# Altium schematic symbol library PBL - Inductors.SCHLIB: 18 symbols
Pins are listed as number, name and electrical type; pins without a type are passive.

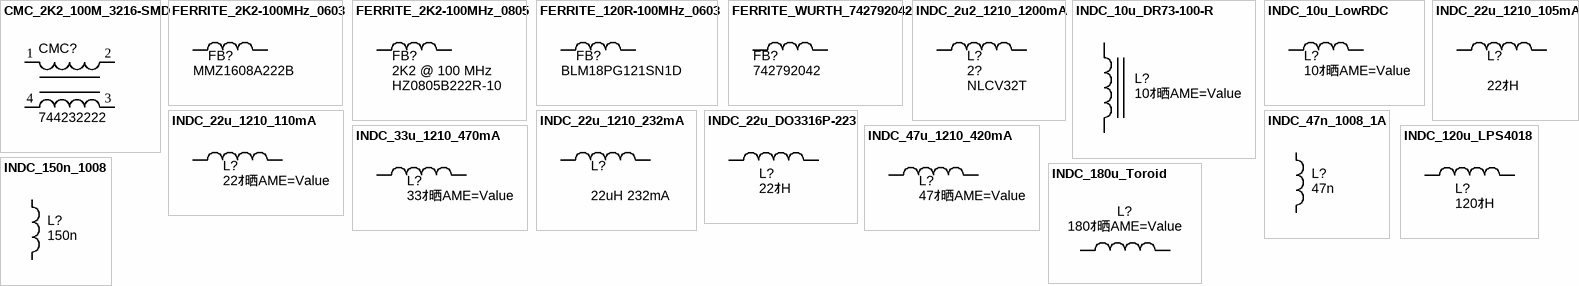
[diagram p0: symbols CMC_2K2_100M_3216-SMD to INDC_180u_Toroid]

## CMC_2K2_100M_3216-SMD
designator CMC?, comment 744232222
Common Mode Choke 2.2K Ohm 1206 SMD; Manufacturer 1: Wurth Electronics Inc; Impedance: 2200 Ohm at 100 MHz; Ratings: 2.2k Ohms at 100MHz; SCDType: source; PackageDescription: SMD Inductor, 4-Leads, Body 1.8 x 3.4 mm; Supplier 1: Digi-Key; Supplier Part Number 1: 732-1474-1-ND; ComponentLink1URL: http://katalog.we-online.de/kataloge/eisos/media/pdf/744232222.pdf; ComponentLink1Description: 744232222 datasheet; Manufacturer Part Number 1: 744232222; Package / Case: Horizontal, 4 PC Pad; Height (Max): 0.083" (2.10mm)
footprint CHOKE_CM_1206SMD (Common-mode choke, Body 3.4x1.8x2.2mm)
pins: 1, 2, 3, 4

## FERRITE_2K2-100MHz_0603
designator FB?, comment Manufacturer Part Number 1: MMZ1608A222B  (hidden comment: 2K2 @ 100 MHz)
Ferrite bead 2.2K Ohm at 100 MHz 200mA 0603 SMD; Manufacturer 1: TDK Corporation; Ratings: 200 mA; 800 mOhm DC; Impedance @ Frequency: 2200 Ohm @ 100MHz; DC Resistance (DCR): 800 mOhm Max; Filter Type: Differential Mode - Single; SCDType: source; Size / Dimension: 0.063" L x 0.031" W (1.60mm x 0.80mm); Current Rating: 200mA; Package / Case: 0603 (1608 Metric); Height (Max): 0.037" (0.95mm); Mounting Type: Surface Mount; Supplier 1: Digi-Key; Supplier Part Number 1: 445-8671-1-ND; RoHS 1: RoHS Compliant; ComponentLink1URL: http://www.tdk.co.jp/tefe02/e9412_mmz.pdf; ComponentLink1Description: http://www.tdk.co.jp/tefe02/e9412_mmz.pdf; Value: 2K2 @ 100 MHz
footprint FBC1608X95N (Chip Ferrite, Body 1.6x0.8mm, 0603, IPC Medium Density)
pins: 1, 2

## FERRITE_2K2-100MHz_0805
designator FB?, comment Manufacturer Part Number 1: HZ0805B222R-10  (hidden comment: 2K2 @ 100 MHz)
Ferrite bead 2.2K Ohm at 100 MHz 200mA 0805 SMD; Manufacturer 1: Laird-Signal Integrity Products; Ratings: 200 mA; 800 mOhm DC; Impedance @ Frequency: 600 Ohm @ 100MHz; DC Resistance (DCR): 800 mOhm Max; Filter Type: Differential Mode - Single; SCDType: source; Size / Dimension: 0.063" L x 0.031" W (1.60mm x 0.80mm); Current Rating: 200mA; Package / Case: 0805 (2012 Metric); Height (Max): 0.043" (1.09mm); ComponentLink1URL: http://www.lairdtech.com/WorkArea/linkit.aspx?LinkIdentifier=id&ItemID=4879; ComponentLink1Description: http://www.lairdtech.com/WorkArea/linkit.aspx?LinkIdentifier=id&ItemID=4879; Supplier 1: Digi-Key; Supplier Part Number 1: 240-2562-1-ND; Mounting Type: Surface Mount; Value: 2K2 @ 100 MHz
footprint FBC2012N (Ferrite Bead Chip, Body 2.0x1.2mm, 0805, IPC Medium Density)
pins: 1, 2

## FERRITE_120R-100MHz_0603
designator FB?, comment Manufacturer Part Number 1: BLM18PG121SN1D  (hidden comment: 120R @ 100 MHz)
Ferrite bead 120 Ohm at 100 MHz 2A 0603 SMD; Manufacturer 1: Murata Electronics North America; Current: 900mA; DC Resistance (DCR): 172.9 mOhm Max; Frequency - Self Resonant: 23MHz; Frequency - Test: 100kHz; Impedance @ Frequency: 120 Ohm @ 100MHz; Filter Type: Differential Mode - Single; Number of Lines: 1; Ratings: 2 A; 50 mO DC; SCDType: source; Current - Saturation: 900mA; Current - Temperature Rise: 900mA; Applications: Power Supplies; Package / Case: 1210 (3225 Metric); Operating Temperature: -40ｰC ~ 105ｰC; ComponentLink1URL: http://www.yuden.co.jp/ut/product/pdf/wound02_e.pdf; ComponentLink1Description: http://www.yuden.co.jp/ut/product/pdf/wound02_e.pdf; Supplier 1: Digi-Key; Supplier Part Number 1: 490-1037-1-ND; Current Rating: 2A; Mounting Type: Surface Mount; Height (Max): 0.037" (0.95mm); Size / Dimension: 0.063" L x 0.031" W (1.60mm x 0.80mm); ComponentLink2URL: http://search.murata.co.jp/Ceramy/image/img/PDF/ENG/L0110S0100BLM18P.pdf; ComponentLink2Description: http://search.murata.co.jp/Ceramy/image/img/PDF/ENG/L0110S0100BLM18P.pdf; Value: 120R @ 100 MHz
footprint INDC1608N (Chip bead, Body 1.6x0.8mm, 0603, IPC Medium Density)
pins: 1, 2

## FERRITE_WURTH_742792042
designator FB?, comment Manufacturer Part Number 1: 742792042  (hidden comment: 600R @ 100 MHz)
Ferrite bead Wurth 742792042 SMD 200mA 0805; Manufacturer 1: WURTH ELEKTRONIK; Ratings: 200 mA; 500 mOhm DC; Impedance @ Frequency: 600 Ohm @ 100MHz; DC Resistance (DCR): 500 mOhm Max; Filter Type: Differential Mode - Single; SCDType: source; Size / Dimension: 0.063" L x 0.031" W (1.60mm x 0.80mm); Current Rating: 200mA; Package / Case: 0805 (2012 Metric); Height (Max): 0.041" (1.05mm); Value: 600R @ 100 MHz; Supplier 1: Newark; Supplier Part Number 1: 08P2373; ComponentLink1URL: http://katalog.we-online.de/kataloge/eisos/media/pdf/742792042.pdf; ComponentLink1Description: http://katalog.we-online.de/kataloge/eisos/media/pdf/742792042.pdf
footprint FBC2012N (Ferrite Bead Chip, Body 2.0x1.2mm, 0805, IPC Medium Density)
pins: 1, 2

## INDC_2u2_1210_1200mA
designator L?, comment NLCV32T  value 2?
Inductor 2.2uH 1.2A 1210 SMD chip; Manufacturer 1: TDK Corporation; Manufacturer Part Number 1: NLCV32T-2R2M-PFR; Ratings: 1.2 Adc; Tolerance: ?0%; Type: Ferrite Core; DC Resistance (DCR): 115 mOhm; Q @ Freq: 15 @ 7.96MHz; Frequency - Self Resonant: 68MHz; Frequency - Test: 7.96MHz; SCDType: source; Package / Case: 1210 (3225 Metric); Supplier 1: Digi-Key; Supplier Part Number 1: 445-3650-1-ND; ComponentLink1URL: http://www.tdk.co.jp/tefe02/e511_nlcv_nlc.pdf; ComponentLink1Description: http://www.tdk.co.jp/tefe02/e511_nlcv_nlc.pdf; Operating Temperature: -40ｰC ~ 125ｰC
footprint INDM3225X240N (Molded Inductor, 2-Leads, Body 3.2x2.5mm, IPC Medium Density)
pins: 1, 2

## INDC_10u_DR73-100-R
designator L?
Inductor Power 10ｵH 2.1A 7.6x7.6mm SMD; Manufacturer 1: Cooper Bussmann; Manufacturer Part Number 1: DR73-100-R; Tolerance: ?0%; Material: ferrite shielded; SCDType: spec; Package / Case: 5.0x5.0x4.5mm; Ratings: 2.1 A; Supplier 1: Digi-Key; Supplier Part Number 1: 513-1129-1-ND; ComponentLink1URL: http://www.cooperindustries.com/content/dam/public/bussmann/Electronics/Resources/Data%20Sheets/Bus_Elx_DS_4315_DR_Series.pdf; ComponentLink1Description: http://www.cooperindustries.com/content/dam/public/bussmann/Electronics/Resources/Data%20Sheets/Bus_Elx_DS_4315_DR_Series.pdf
footprint IND_WW_DR73 (Wire-wound power inductor, Cooper Bussmann DR73 series, IPC Medium Density)
pins: 1, 2
text: 10ｵ晒AME=Value

## INDC_10u_LowRDC
designator L?
Inductor SMD Low DCR 10 ｵH 900mA 20% 1210; Manufacturer 1: Taiyo Yuden; Manufacturer Part Number 1: CBC3225T100MR; Ratings: 900 mA; 133 mOhm; Tolerance: ?0%; DC Resistance (DCR): 172.9 mOhm Max; Frequency - Self Resonant: 23MHz; Frequency - Test: 100kHz; SCDType: spec; Supplier 1: Digi-Key; Supplier Part Number 1: 587-1625-1-ND; Current: 900mA; Current - Saturation: 900mA; Current - Temperature Rise: 900mA; Applications: Power Supplies; Package / Case: 1210 (3225 Metric); Operating Temperature: -40ｰC ~ 105ｰC; ComponentLink1URL: http://www.yuden.co.jp/ut/product/pdf/wound02_e.pdf; ComponentLink1Description: http://www.yuden.co.jp/ut/product/pdf/wound02_e.pdf
footprint INDC3225X250N (Chip Inductor, 2-Leads, Body 3.2x2.5mm, IPC Medium Density)
pins: 1, 2
text: 10ｵ晒AME=Value

## INDC_22u_1210_105mA
designator L?, comment 22ｵH
Inductor 22uH 105mA 1210 SMD chip; Manufacturer 1: Panasonic - ECG; Manufacturer Part Number 1: ELJ-FA220KF; Ratings: 105 mAdc; Tolerance: ?0%; Value: 22ｵ鯖SHIDDEN=T; Type: Ferrite Core; DC Resistance (DCR): 3.7 Ohm Max; Q @ Freq: 30 @ 2.52MHz; Frequency - Self Resonant: 25MHz; Frequency - Test: 2.52MHz; Material - Core: Ferrite; SCDType: source; Package / Case: 1210 (3225 Metric); Supplier 1: Digi-Key; Supplier Part Number 1: PCD1024CT-ND; ComponentLink1URL: http://industrial.panasonic.com/www-cgi/jvcr13pz.cgi?E+PZ+3+AGA0031+ELJFA220KF+7+WW; ComponentLink1Description: http://industrial.panasonic.com/www-cgi/jvcr13pz.cgi?E+PZ+3+AGA0031+ELJFA220KF+7+WW
footprint INDM3225X240N (Molded Inductor, 2-Leads, Body 3.2x2.5mm, IPC Medium Density)
pins: 1, 2

## INDC_22u_1210_110mA
designator L?, comment SMD-322522  (value not drawn)
Inductor 22uH 110mA 1210 SMD chip; Manufacturer 1: 3L; Manufacturer Part Number 1: SMD-322522-220K; Ratings: 110 mAdc; Tolerance: ?0%; Type: Ferrite Core; DC Resistance (DCR): 3.7 Ohm; Q @ Freq: 30 @ 2.52MHz; Frequency - Self Resonant: 20MHz; Frequency - Test: 2.52MHz; SCDType: source; Package / Case: 1210 (3225 Metric); Operating Temperature: -20ｰC ~ 80ｰC; Supplier 1: APlus Products; Supplier Part Number 1: SMD-322522-220K
footprint INDM3225X240N (Molded Inductor, 2-Leads, Body 3.2x2.5mm, IPC Medium Density)
pins: 1, 2
text: 22ｵ晒AME=Value

## INDC_22u_1210_232mA
designator L?, comment 22uH 232mA
Inductor 22uH 110mA 1210 SMD chip; Ratings: 110 mAdc; Tolerance: ?0%; Type: Ferrite Core; DC Resistance (DCR): 3.7 Ohm; Q @ Freq: 30 @ 2.52MHz; Frequency - Self Resonant: 20MHz; Frequency - Test: 2.52MHz; SCDType: source; Package / Case: 1210 (3225 Metric); Supplier 1: Digi-Key; Value: 22uH 232mA; Supplier Part Number 1: DN7915CT-ND
footprint INDM3225X240N (Molded Inductor, 2-Leads, Body 3.2x2.5mm, IPC Medium Density)
pins: 1, 2

## INDC_22u_DO3316P-223
designator L?, comment 22ｵH
Inductor Power SMD 22ｵH; Manufacturer 1: Coilcraft; Manufacturer Part Number 1: DO3316P-223KL; Ratings: 2.3 Adc; Tolerance: ?0%; Value: 22ｵ鯖SHIDDEN=T; SCDType: spec; Package / Case: 12.95x9.4mm
footprint IND_Coilcraft_DO3316P_SM (Wire-wound Power Inductor, 2-Leads, Body 12.95x9.4mm)
pins: 1, 2

## INDC_33u_1210_470mA
designator L?, comment BRL3225T330K  (value not drawn)
Inductor 33uH 470mA 1210 SMD chip; Manufacturer 1: Taiyo Yuden; Ratings: 470 mAdc; Tolerance: ?0%; Type: Ferrite Core; DC Resistance (DCR): 1.008 Ohm; Frequency - Self Resonant: 9MHz; Frequency - Test: 100kHz; SCDType: source; Package / Case: 1210 (3225 Metric); Operating Temperature: -40ｰC ~ 105ｰC; Supplier 1: Digi-Key; Supplier Part Number 1: 587-3029-1-ND; Manufacturer Part Number 1: BRL3225T330K; ComponentLink1URL: http://www.yuden.co.jp/ut/product/category/inductor/BRL3225T330K.pdf; ComponentLink1Description: http://www.yuden.co.jp/ut/product/category/inductor/BRL3225T330K.pdf
footprint INDC3225X170N (Chip Inductor, 2-Leads, Body 3.2x2.5mm, IPC Medium Density)
pins: 1, 2
text: 33ｵ晒AME=Value

## INDC_47n_1008_1A
designator L?, comment 47n
Inductor SMD chip 47nH 1008; Manufacturer 1: Abracon Corporation; Manufacturer Part Number 1: AISC-1008-R047J-T; Ratings: 1 A; Tolerance: ?%; Material: Ceramic; DC Resistance (DCR): 160 mOhm Max; SCDType: source; Package / Case: 1008 (2520 Metric); Supplier 1: Digi-Key; Supplier Part Number 1: 535-10535-1-ND; Value: 47n
footprint INDM2520X190N (Inductor, molded body 2.5x2.0mm)
pins: 1, 2

## INDC_47u_1210_420mA
designator L?, comment BRL3225T470K  (value not drawn)
Inductor 47uH 420mA 1210 SMD chip; Manufacturer 1: Taiyo Yuden; Ratings: 420 mAdc; Tolerance: ?0%; Type: Ferrite Core; DC Resistance (DCR): 1.2 Ohm; Frequency - Self Resonant: 7MHz; Frequency - Test: 100kHz; SCDType: source; Package / Case: 1210 (3225 Metric); Operating Temperature: -40ｰC ~ 105ｰC; Supplier 1: Digi-Key; Supplier Part Number 1: 587-2169-1-ND; Manufacturer Part Number 1: BRL3225T470K; ComponentLink1URL: http://www.yuden.co.jp/ut/product/category/inductor/BRL3225T470K.pdf; ComponentLink1Description: http://www.yuden.co.jp/ut/product/category/inductor/BRL3225T470K.pdf
footprint INDC3225X170N (Chip Inductor, 2-Leads, Body 3.2x2.5mm, IPC Medium Density)
pins: 1, 2
text: 47ｵ晒AME=Value

## INDC_120u_LPS4018
designator L?, comment 120ｵH
Inductor shielded 120uH 300mA LPS4018 SMD; Manufacturer 1: Coilcraft; Manufacturer Part Number 1: LPS4018-124ML; Ratings: 300 mArms; Tolerance: ?0%; Value: 120ｵ鯖SHIDDEN=T; Type: Ferrite Core; DC Resistance (DCR): 1.6 Ohm Max; Frequency - Self Resonant: 9MHz; Frequency - Test: 100kHz; Material - Core: Ferrite; SCDType: spec; Package / Case: LPS4018; Current: 300mA; Supplier 1: Coilcraft; Supplier Part Number 1: LPS4018-124MLC
footprint IND_COILCRAFT_LPS4018 (Shielded Power Inductor, Body 4.0x4.0x1.8mm)
pins: 1, 2

## INDC_150n_1008
designator L?, comment 150n
Inductor SMD chip 150nH 1008; Manufacturer 1: TDK Corporation; Manufacturer Part Number 1: NLV25T-R15J-PF; Ratings: 500 mA; Tolerance: ?%; SCDType: spec; Package / Case: 1008 (2520 Metric); Supplier 1: Digi-Key; Supplier Part Number 1: 445-1715-1-ND; Value: 150n
footprint INDM2520X190N (Inductor, molded body 2.5x2.0mm)
pins: 1, 2

## INDC_180u_Toroid
designator L?  (value not drawn)
Power Inductor 180ｵH 10% SMD Toroid; Manufacturer 1: JW Miller A Bourns Company; Manufacturer Part Number 1: PM2110-181K-RC; Ratings: 3.7A; Tolerance: ?0%; SCDType: spec; Package / Case: 1.200" L x 1.000" W x 0.530" H; Supplier 1: Digi-Key; Supplier Part Number 1: M8769-ND; Current: 3.7A
footprint IND_SMD_TOROID_1.2x1.0in (Inductor, Toroid, 30.5mm L x 25.4mm W x 13.5mm T)
pins: 1, 2
text: 180ｵ晒AME=Value